# EAGLE library part PCF8575C (library howell)
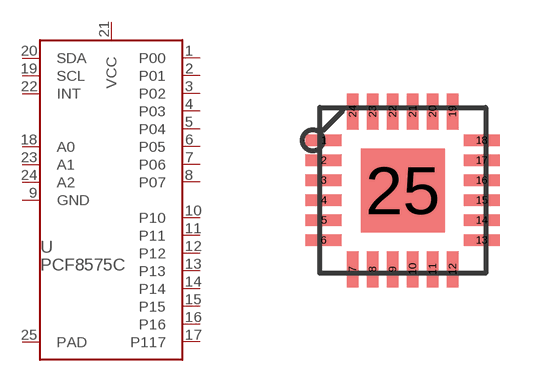
[diagram p8: symbol with the pads of VQFN24; footprint VQFN24]

Designator prefix -

## PCF8575C  [VQFN24]
1  P00
2  P01
3  P02
4  P03
5  P04
6  P05
7  P06
8  P07
9  GND
10  P10
11  P11
12  P12
13  P13
14  P14
15  P15
16  P16
17  P117
18  A0
19  SCL
20  SDA
21  VCC
22  INT
23  A1
24  A2
25  PAD

## Footprint VQFN24 (pad centres in mm)
smd 0.9 x 0.28: 1 -1.975,1.25; 2 -1.975,0.75; 3 -1.975,0.25; 4 -1.975,-0.25; 5 -1.975,-0.75; 6 -1.975,-1.25; 13 1.975,-1.25; 14 1.975,-0.75; 15 1.975,-0.25; 16 1.975,0.25; 17 1.975,0.75; 18 1.975,1.25
smd 0.28 x 0.9: 7 -1.25,-1.975; 8 -0.75,-1.975; 9 -0.25,-1.975; 10 0.25,-1.975; 11 0.75,-1.975; 12 1.25,-1.975; 19 1.25,1.975; 20 0.75,1.975; 21 0.25,1.975; 22 -0.25,1.975; 23 -0.75,1.975; 24 -1.25,1.975
smd 2.1 x 2.1: 25 0,0